# Altium footprint library PCB1.PcbLib: 74 footprints (part 1 of 5)
Each footprint in its own frame and in the unit in brackets; x right, y up, seen from the top. Pads: shape width x height; smd on the part's side, far side on the other; paste and mask are expansions set on the pad; w line width, h text height; cw(c..) or ccw(c..) is an arc to the next point about the centre after c.
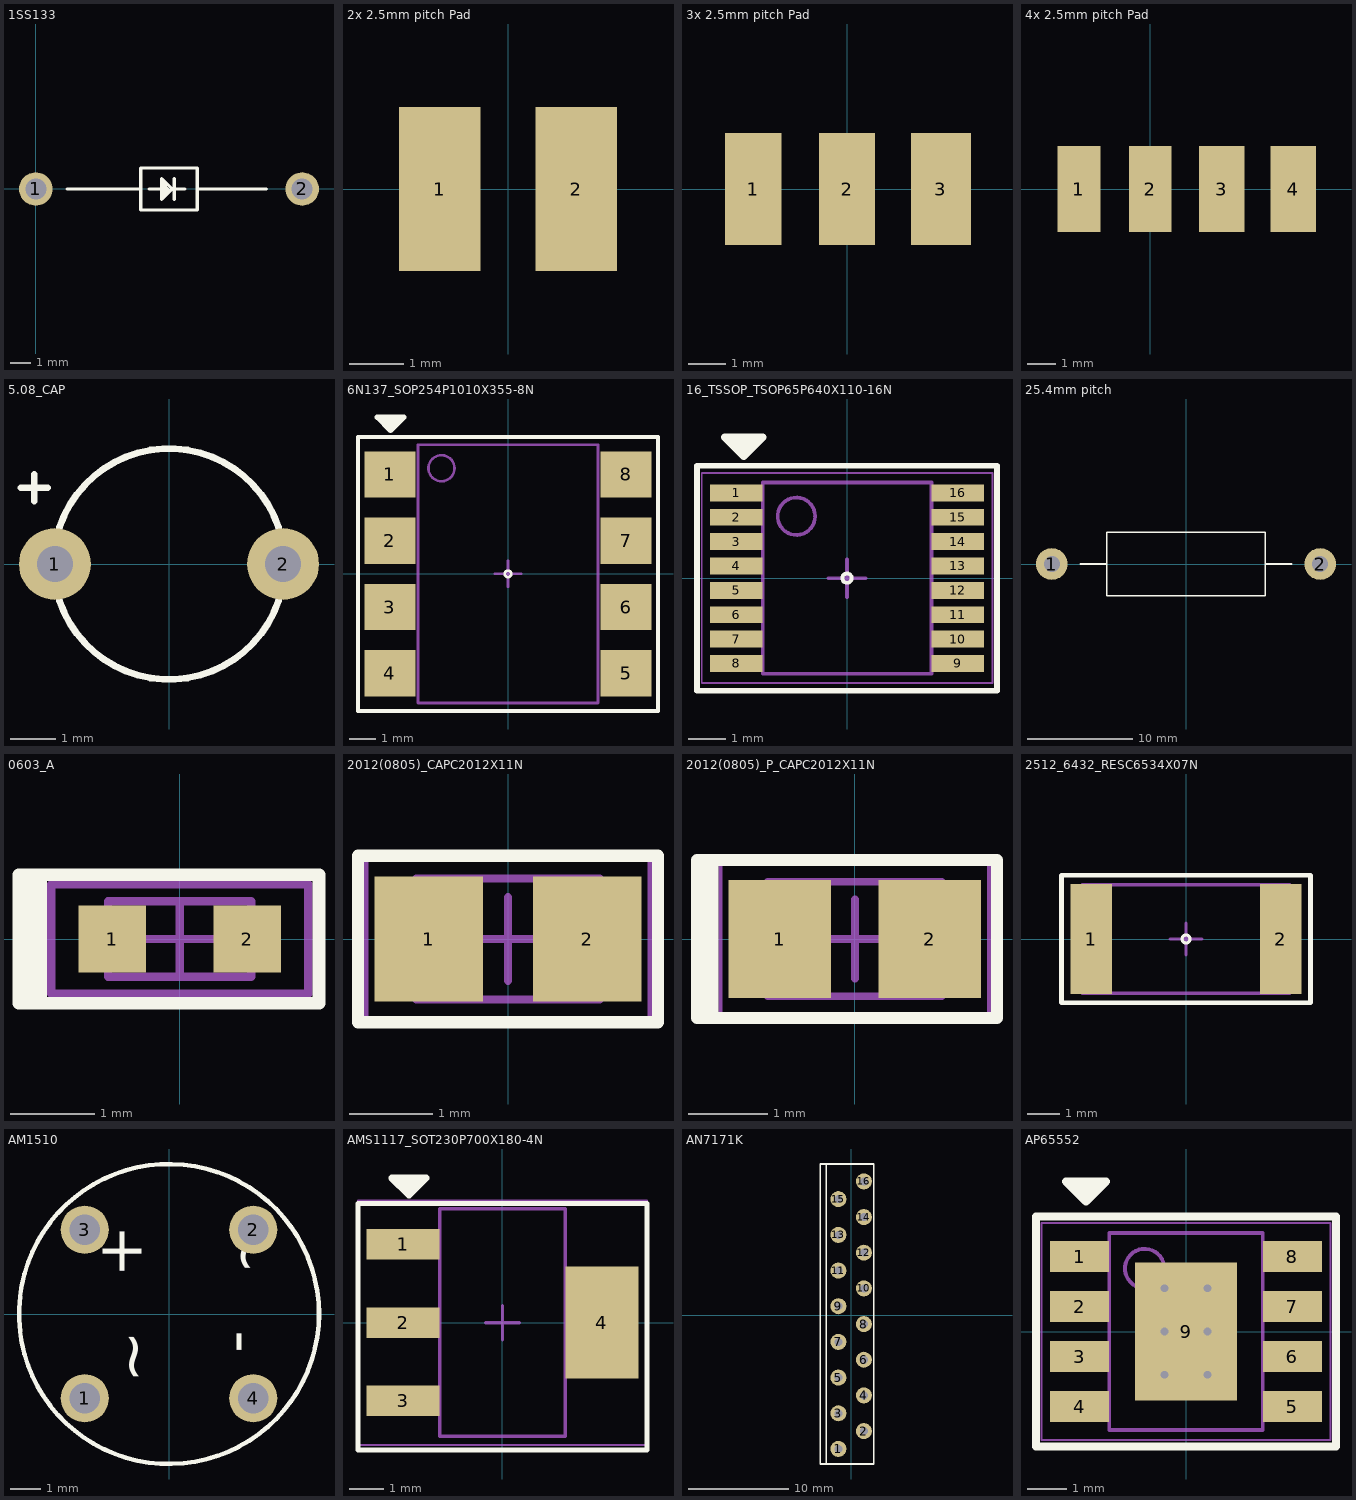
[diagram p0: the footprints below, top view; thin cyan lines are the x and y axes]

## 1SS133 [mm] "schotky diode"
pads (2):
  round 1.6 hole 1 paste-0.05 mask+0.1: 1(0,0) 2(12.7,0)
Top Overlay:
  lines w0.15: 1.5,0 5,0 ; 5.4,0 6,0 ; 6.1,-0.4 6.1,0.2 6,0.3 ; 6.325,-0.175 6.175,-0.175 ; 6.6,-0.5 6.6,0.5 ; 6.6,0 7.1,0 ; 7.7,0 11,0 ; 5,0 5,-1 7.7,-1 7.7,1 5,1 5,0 ; 6,0 6.3,0 6.4,-0.1 ; 6,0 6.175,-0.175 ; 6,0 6,0.3 ; 6,0 6.25,-0.25 6.4,-0.1 ; 6,0.3 6.4,-0.1 ; 6.175,-0.175 6.25,-0.1 6.4,-0.1 ; 6,-0.5 6.5,0 6,0.5 6,-0.5

## 2x 2.5mm pitch Pad [mm] "2P"
pads (2):
  rect 1.5x3 smd paste-0.05 mask+0.102: 1(-1.25,0) 2(1.25,0)

## 3x 2.5mm pitch Pad [mm] "3P"
pads (3):
  rect 1.5x3 smd paste-0.05 mask+0.102: 1(-2.5,0) 2(0,0)
  rect 1.6x3 smd paste-0.05 mask+0.102: 3(2.5,0)

## 4x 2.5mm pitch Pad [mm] "4P"
pads (4):
  rect 1.5x3 smd paste-0.05 mask+0.102: 1(-2.5,0) 2(0,0)
  rect 1.6x3 smd paste-0.05 mask+0.102: 3(2.5,0) 4(5,0)

## 5.08_CAP [mm]
pads (2):
  round 1.6 hole 0.8 paste-0.05 mask+0.1: 1(-2.54,0) 2(2.54,0)
Top Overlay:
  circle w0.15: c0,0 r2.571
  lines w0.15: -3.3,1.7 -2.7,1.7 ; -3,1.4 -3,2

## 6N137_SOP254P1010X355-8N [mm] "SOP, 8-Leads, Body 9.75x6.70mm, Pitch 2.54mm, IPC Medium Density"
height 3.55
pads (8):
  rect 1.95x1.78 smd: 1(-4.525,3.81) 2(-4.525,1.27) 3(-4.525,-1.27) 4(-4.525,-3.81) 5(4.525,-3.81) 6(4.525,-1.27) 7(4.525,1.27) 8(4.525,3.81)
Top Overlay:
  circle w0.1: c0,0 r0.125
  lines w0.15: -5.75,-5.25 -5.75,5.25 5.75,5.25 5.75,-5.25 -5.75,-5.25
  lines w0.2: -4.5,5.5 -3.992,6.008 -5.008,6.008 -4.5,5.5 ; -4.5,5.5 -4.5,6.008 -4.5,5.754 ; -4.5,5.754 -4.754,6.008 -4.246,6.008 -4.5,5.754
Mechanical 13:
  circle w0.1: c-2.55,4.05 r0.5
  lines w0.1: -3.45,-4.95 -3.45,4.95 3.45,4.95 3.45,-4.95 -3.45,-4.95
Mechanical 15:
  lines w0.05: -5.75,-5.2 -5.75,5.2 5.75,5.2 5.75,-5.2 -5.75,-5.2
  lines w0.1: -0.5,0 0.5,0 ; 0,-0.5 0,0.5
3D body "6N137_SOP254P1010X355-8N.step": height 3.55, standoff 0, extent -5.025,-4.95 5.025,4.95

## 16_TSSOP_TSOP65P640X110-16N [mm] "TSOP, 16-Leads, Body 5.00x4.40mm, Pitch 0.65mm, IPC Medium Density"
height 1.1
pads (16):
  rect 1.4x0.45 smd: 1(-2.95,2.275) 2(-2.95,1.625) 3(-2.95,0.975) 4(-2.95,0.325) 5(-2.95,-0.325) 6(-2.95,-0.975) 7(-2.95,-1.625) 8(-2.95,-2.275) 9(2.95,-2.275) 10(2.95,-1.625) 11(2.95,-0.975) 12(2.95,-0.325) 13(2.95,0.325) 14(2.95,0.975) 15(2.95,1.625) 16(2.95,2.275)
Top Overlay:
  circle w0.1: c0,0 r0.125
  lines w0.15: -4,-3 -4,3 4,3 4,-3 -4,-3
  lines w0.2: -2.75,3.246 -2.75,3.754 -2.75,3.5 ; -2.75,3.246 -3.258,3.754 -2.242,3.754 -2.75,3.246 ; -2.75,3.5 -2.496,3.754 -3.004,3.754 -2.75,3.5
Mechanical 13:
  circle w0.1: c-1.35,1.65 r0.5
  lines w0.1: -2.25,-2.55 -2.25,2.55 2.25,2.55 2.25,-2.55 -2.25,-2.55
Mechanical 15:
  lines w0.05: -3.875,-2.8 -3.875,2.8 3.875,2.8 3.875,-2.8 -3.875,-2.8
  lines w0.1: -0.5,0 0.5,0 ; 0,-0.5 0,0.5
3D body "16_TSSOP_TSOP65P640X110-16N.step": height 1.1, standoff 0, extent -3.175,-2.55 3.175,2.55

## 25.4mm pitch [mm] "RES"
pads (2):
  round 3 hole 1.5 paste-0.05 mask+0.1: 1(-12.7,0) 2(12.7,0)
Top Overlay:
  lines w0.15: -10,0 -7.5,0 ; 7.5,0 10,0 ; -7.5,-3 7.5,-3 7.5,3 5.5,3 -7.5,3 -7.5,-3

## 0603_A [mm] "Chip LED, 1608"
pads (2):
  rect 0.8x0.8 smd: 1(-0.8,0) 2(0.8,0)
Top Overlay:
  lines w0.15: -1.651,-0.762 -1.905,-0.762 -1.905,0.762 -1.651,0.762 ; -1.651,-0.762 -1.778,-0.635 -1.778,0.635 -1.651,0.762 ; -1.651,-0.762 -1.651,-0.346 -1.651,0.762 ; -1.651,-0.762 1.651,-0.762 1.651,0.762 -1.651,0.762
Mechanical 13:
  lines w0.1: -0.85,-0.45 -0.85,0.45 0.85,0.45 0.85,-0.45 -0.85,-0.45
Mechanical 15:
  lines w0.1: -0.45,0 0.45,0 ; 0,-0.45 0,0.45 ; -1.525,-0.65 -1.525,0.65 1.525,0.65 1.525,-0.65 -1.525,-0.65
3D body "WL-SMCW_0603_LED.stp": height 0.7, standoff 0, extent -0.8,-0.4 0.8,0.4

## 2012(0805)_CAPC2012X11N [mm] "Chip Capacitor, 2-Leads, Body 2.00x1.25mm, IPC Medium Density"
height 1.1
pads (2):
  rect 1.3x1.5 smd paste+0.05 mask+0.1: 1(-0.95,0)
  rect 1.3x1.5 smd: 2(0.95,0)
Top Overlay:
  lines w0.15: -1.8,-1 -1.8,1 1.8,1 1.8,-1 -1.8,-1
Mechanical 13:
  lines w0.1: -1.1,-0.725 1.1,-0.725 1.1,0.725 -1.1,0.725 -1.1,-0.725
Mechanical 15:
  lines w0.05: -1.7,-1 1.7,-1 1.7,1 -1.7,1 -1.7,-1
  lines w0.1: -0.5,0 0.5,0 ; 0,-0.5 0,0.5
3D body "2012(0805)_CAPC2012X11N.step": height 1.1, standoff 0, extent -1.1,-0.725 1.1,0.725

## 2012(0805)_P_CAPC2012X11N [mm]
pads (2):
  rect 1.3x1.5 smd paste+0.05 mask+0.1: 1(-0.95,0)
  rect 1.3x1.5 smd: 2(0.95,0)
Top Overlay:
  lines w0.15: -1.8,0.8 -1.9,0.7 ; -2,0.8 -2,0.7 -2,-1 -1.8,-1 ; -2,0.8 -1.9,0.7 ; -2,0.8 -2,1 -1.8,1 ; -2,0.8 -1.8,1 ; -2,0.8 -1.9,0.7 ; -1.9,-0.9 -1.8,-1 ; -1.9,-0.9 -1.8,-1 ; -1.9,-0.9 -1.9,0.7 ; -1.8,-1 1.8,-1 1.8,1 -1.8,1 ; -1.8,-1 -1.8,1 ; -1.8,1 -1.8,1
Mechanical 13:
  lines w0.1: -1.1,-0.725 -1.1,0.725 1.1,0.725 1.1,-0.725 -1.1,-0.725
Mechanical 15:
  lines w0.05: -1.7,-1 -1.7,1 1.7,1 1.7,-1 -1.7,-1
  lines w0.1: -0.5,0 0.5,0 ; 0,-0.5 0,0.5
3D body "2012(0805)_CAPC2012X11N.step": height 1.1, standoff 0, extent -1.1,-0.725 1.1,0.725

## 2512_6432_RESC6534X07N [mm] "Chip Resistor, 2-Leads, Body 6.50x3.40mm, IPC Medium Density"
height 0.7
pads (2):
  rect 1.3x3.45 smd: 1(-2.975,0) 2(2.975,0)
Top Overlay:
  circle w0.1: c0,0 r0.125
  lines w0.15: -3.9,-2 -3.9,2 3.9,2 3.9,-2 -3.9,-2
Mechanical 13:
  lines w0.1: -3.25,-1.7 3.25,-1.7 3.25,1.7 -3.25,1.7 -3.25,-1.7
Mechanical 15:
  lines w0.05: -3.9,-2 3.9,-2 3.9,2 -3.9,2 -3.9,-2
  lines w0.1: -0.5,0 0.5,0 ; 0,-0.5 0,0.5
3D body "2512_6432_RESC6534X07N.step": height 0.7, standoff 0, extent -3.25,-1.7 3.25,1.7

## AM1510 [mm] "Bridge Diode"
pads (4):
  round 1.6 hole 1 paste-0.05 mask+0.1: 1(-2.8,-2.8) 2(2.8,2.8) 3(-2.8,2.8) 4(2.8,-2.8)
Top Overlay:
  circle w0.15: c0,0 r4.982
  text "+" at -0.9,1.2 h1.52
  text "-" at 2.9,-1.3 h1.52
  text "~" at -0.5,-2.3 h1.52
  text "~" at 3.2,1.3 h1.52

## AMS1117_SOT230P700X180-4N [mm] "SOT223, 4-Leads, Body 6.50x7.00mm (avg), Pitch 2.30mm, IPC Medium Density"
height 1.8
pads (4):
  rect 2.15x0.9 smd: 1(-2.925,2.3) 2(-2.925,0) 3(-2.925,-2.3)
  rect 2.15x3.3 smd: 4(2.925,0)
Top Overlay:
  lines w0.15: -4.25,-3.75 -4.25,3.5 4.25,3.5 4.25,-3.75 -4.25,-3.75
  lines w0.2: -2.75,3.746 -2.242,4.254 -3.258,4.254 -2.75,3.746 ; -2.75,3.746 -2.75,4.254 -2.75,4 ; -2.75,4 -3.004,4.254 -2.496,4.254 -2.75,4
Mechanical 13:
  lines w0.1: -1.85,-3.35 -1.85,3.35 1.85,3.35 1.85,-3.35 -1.85,-3.35
Mechanical 15:
  lines w0.05: -4.25,-3.6 -4.25,3.6 4.25,3.6 4.25,-3.6 -4.25,-3.6
  lines w0.1: -0.5,0 0.5,0 ; 0,-0.5 0,0.5
3D body "AMS1117_SOT230P700X180-4N.step": height 1.8, standoff 0, extent -3.5,-3.35 3.5,3.35

## AN7171K [mm]
pads (16):
  round 1.6 hole 0.8 paste-0.05 mask+0.1: 1(-1.27,-13.335) 2(1.27,-11.557) 3(-1.27,-9.779) 4(1.27,-8.001) 5(-1.27,-6.223) 6(1.27,-4.445) 7(-1.27,-2.667) 8(1.27,-0.889) 9(-1.27,0.889) 10(1.27,2.667) 11(-1.27,4.445) 12(1.27,6.223) 13(-1.27,8.001) 14(1.27,9.779) 15(-1.27,11.557) 16(1.27,13.335)
Top Overlay:
  lines w0.15: -2.5,-14.835 -2.5,15.065 ; -3.07,-14.835 -3.07,15.065 2.23,15.065 2.23,12.265 2.23,-14.835 -1.37,-14.835 -3.07,-14.835

## AP65552 [mm]
pads (9):
  rect 1.5x0.8 smd: 1(-2.7,1.905) 2(-2.7,0.635) 3(-2.7,-0.635) 4(-2.7,-1.905) 5(2.7,-1.905) 6(2.7,-0.635) 7(2.7,0.635) 8(2.7,1.905)
  rect 2.6x3.5 smd: 9(0,0)
via -0.55,1.1 diameter 0.5 hole 0.2
via 0.55,1.1 diameter 0.5 hole 0.2
via -0.55,0 diameter 0.5 hole 0.2
via 0.55,0 diameter 0.5 hole 0.2
via -0.55,-1.1 diameter 0.5 hole 0.2
via 0.55,-1.1 diameter 0.5 hole 0.2
Top Overlay:
  lines w0.2: -2.54,3.302 -2.54,3.81 -2.54,3.556 ; -2.54,3.302 -3.048,3.81 -2.032,3.81 -2.54,3.302 ; -2.54,3.556 -2.286,3.81 -2.794,3.81 -2.54,3.556 ; -3.81,-2.921 3.81,-2.921 3.81,2.921 -3.81,2.921 -3.81,-2.921
Mechanical 13:
  circle w0.1: c-1.05,1.6 r0.5
  lines w0.1: -1.95,-2.5 -1.95,2.5 1.95,2.5 1.95,-2.5 -1.95,-2.5
Mechanical 15:
  lines w0.05: -3.675,-2.75 -3.675,2.75 3.675,2.75 3.675,-2.75 -3.675,-2.75
  lines w0.1: -0.5,0 0.5,0 ; 0,-0.5 0,0.5
3D body "SOIC127P600X150_HS-9N.step": height 1.5, standoff 0, extent -3,-2.5 3,2.5